# EAGLE library part JTAG (library Headers)
JTAG Header
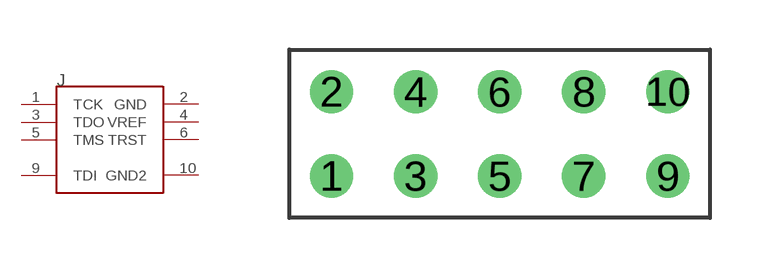
[diagram p2: symbol with the pads of 2.54MM2X5TH; footprint 2.54MM2X5TH]

Designator prefix J

## JTAG2.54MM2X5TH  [2.54MM2X5TH]
1  TCK
2  GND
3  TDO
4  VREF
5  TMS
6  TRST
9  TDI
10  GND2

## Footprint 2.54MM2X5TH (pad centres in mm)
drill 0.8: 1 0,0; 2 0,2.54; 3 2.54,0; 4 2.54,2.54; 5 5.08,0; 6 5.08,2.54; 7 7.62,0; 8 7.62,2.54; 9 10.16,0; 10 10.16,2.54